# EAGLE library part 6123XX20621_61231420621 (library WR-BHD)
WR-BHD 2.54 mm Male Characteristics Working Voltage: 250 V UL approval: E323964 UL94-V0 Applications Industrial Production lines Details see: www.we-online.com/components/products/WTB_WR_BHD_BOX_HEADER_2_54MM_MALE_PCB Updated by Ella 2026-09-16 2026 (C) Würth Elektronik
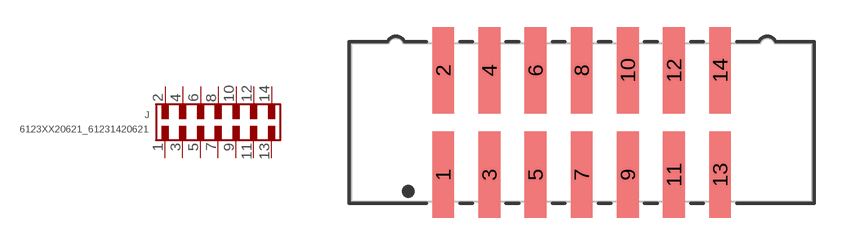
[diagram p89: symbol with the pads of 61231420621; footprint 61231420621]

Designator prefix J

## 6123XX20621_61231420621 (CATEGORY: Connectors; DATASHEET: https://www.we-online.com/redexpert/spec/61231420621?ae; GENDER: Male; LENGTH: 25.4 mm; MANUFACTURER: Würth Elektronik; MOUNT: SMT; MPN: 61231420621; OPERATING_TEMPERATURE: -40 °C up to +125 °C; PACKAGING: Tape and Reel with Cap; PINS: 14; PITCH: 2.54mm; RATED_CURRENT: 3 A; SIZE: SMT Straight; TYPE: Straight; VALUE: 61231420621; VERSION: Low Profile)  [61231420621]
1  1  pas
2  2  pas
3  3  pas
4  4  pas
5  5  pas
6  6  pas
7  7  pas
8  8  pas
9  9  pas
10  10  pas
11  11  pas
12  12  pas
13  13  pas
14  14  pas

## Footprint 61231420621 (pad centres in mm)
WR-BHD Wire-to-Board Connectors, 2.54mm, Male, SMT Straight, 14pins
smd 1.2 x 4.75: 1 -7.62,-2.875; 2 -7.62,2.875; 3 -5.08,-2.875; 4 -5.08,2.875; 5 -2.54,-2.875; 6 -2.54,2.875; 7 0,-2.875; 8 0,2.875; 9 2.54,-2.875; 10 2.54,2.875; 11 5.08,-2.875; 12 5.08,2.875; 13 7.62,-2.875; 14 7.62,2.875